# Altium schematic symbol library AG.LED.SchLib: 9 symbols
Pins are listed as number, name and electrical type; pins without a type are passive.

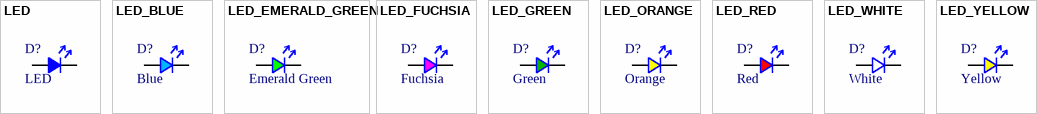
[diagram p0: symbols LED to LED_YELLOW]

## LED
designator D?
Generic LED; EmittingColor: *; ForwardVoltage: *
footprint LED1206 (LED Chip 1206 (3.2mm x 1.5mm))
pins: 1 A, 2 C

## LED_BLUE
designator D?, comment Blue
Generic LED (Blue); ForwardVoltage: 3.6V; EmittingColor: Blue
footprint LED1206 (LED Chip 1206 (3.2mm x 1.5mm))
pins: 1 A, 2 C

## LED_EMERALD_GREEN
designator D?, comment Emerald Green
Generic LED (Emerald Green); ForwardVoltage: 2.0V; EmittingColor: Emerald Green
footprint LED1206 (LED Chip 1206 (3.2mm x 1.5mm))
pins: 1 A, 2 C

## LED_FUCHSIA
designator D?, comment Fuchsia
Generic LED (Fuchsia); ForwardVoltage: 3.2V; EmittingColor: Fuchsia
footprint LED1206 (LED Chip 1206 (3.2mm x 1.5mm))
pins: 1 A, 2 C

## LED_GREEN
designator D?, comment Green
Generic LED (Green); ForwardVoltage: 2.1V; EmittingColor: Green
footprint LED1206 (LED Chip 1206 (3.2mm x 1.5mm))
pins: 1 A, 2 C

## LED_ORANGE
designator D?, comment Orange
Generic LED (Orange); ForwardVoltage: 2.1V; EmittingColor: Orange
footprint LED1206 (LED Chip 1206 (3.2mm x 1.5mm))
pins: 1 A, 2 C

## LED_RED
designator D?, comment Red
Generic LED (Red); ForwardVoltage: 1.8V; EmittingColor: Red
footprint LED1206 (LED Chip 1206 (3.2mm x 1.5mm))
pins: 1 A, 2 C

## LED_WHITE
designator D?, comment White
Generic LED (White); ForwardVoltage: 3.6V; EmittingColor: White
footprint LED1206 (LED Chip 1206 (3.2mm x 1.5mm))
pins: 1 A, 2 C

## LED_YELLOW
designator D?, comment Yellow
Generic LED (Yellow); ForwardVoltage: 2.1V; EmittingColor: Yellow
footprint LED1206 (LED Chip 1206 (3.2mm x 1.5mm))
pins: 1 A, 2 C